# EAGLE library part ES7P001 (library Eastsoft)
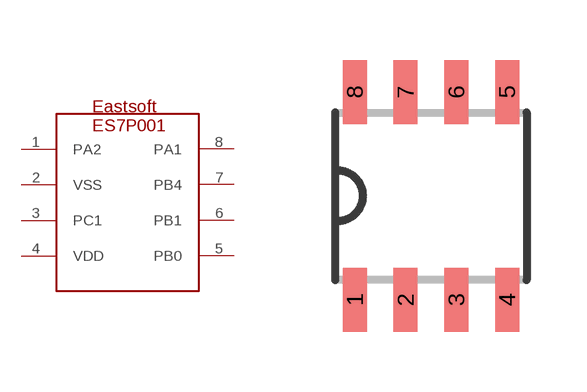
[diagram p0: symbol with the pads of SOP8; footprint SOP8]

Designator prefix -

## ES7P001  [SOP8]
1  PA2
2  VSS
3  PC1
4  VDD
5  PB0
6  PB1
7  PB4
8  PA1

## Footprint SOP8 (pad centres in mm)
SOP8 Source: http://www.rohm.com/products/databook/motor/pdf/bd623x_series-e.pdf
smd 0.6 x 1.6: 1 -1.905,-2.6; 2 -0.635,-2.6; 3 0.635,-2.6; 4 1.905,-2.6; 5 1.905,2.6; 6 0.635,2.6; 7 -0.635,2.6; 8 -1.905,2.6